# Altium schematic symbol library LDS6120NQGI8.Schlib: 1 symbol
Pins are listed as number, name and electrical type; pins without a type are passive.

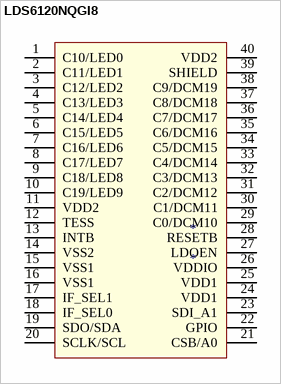
[diagram p0: symbol LDS6120NQGI8]

## LDS6120NQGI8
designator *
pins: 1 C10/LED0, 2 C11/LED1, 3 C12/LED2, 4 C13/LED3, 5 C14/LED4, 6 C15/LED5, 7 C16/LED6, 8 C17/LED7, 9 C18/LED8, 10 C19/LED9, 11 VDD2, 12 TESS, 13 INTB, 14 VSS2, 15 VSS1, 16 VSS1, 17 IF_SEL1, 18 IF_SEL0, 19 SDO/SDA, 20 SCLK/SCL, 21 CSB/A0, 22 GPIO, 23 SDI_A1, 24 VDD1, 25 VDD1, 26 VDDIO, 27 LDOEN, 28 RESETB, 29 C0/DCM10, 30 C1/DCM11, 31 C2/DCM12, 32 C3/DCM13, 33 C4/DCM14, 34 C5/DCM15, 35 C6/DCM16, 36 C7/DCM17, 37 C8/DCM18, 38 C9/DCM19, 39 SHIELD, 40 VDD2